# EAGLE library part L53C80JC2 (library F030NG)
SCSI / L53C80JC2
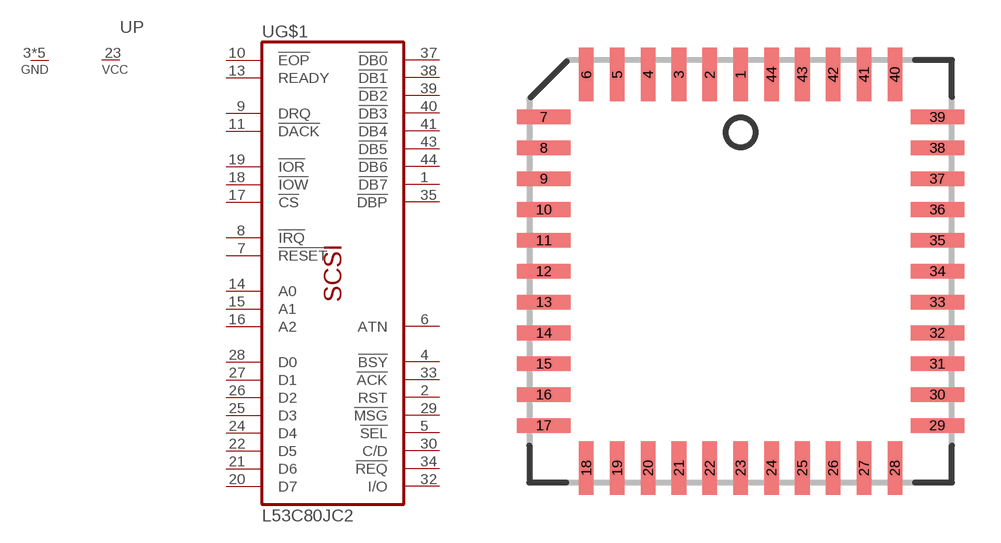
[diagram p28: symbol with the pads of PLCC44; footprint PLCC44]

Designator prefix U; gates G$1=L53C80JC2 P=1VCC_1GND

## L53C80JC2-PLCC44  [PLCC44]
1  G$1:!DB7
2  G$1:RST
3  P:GND  pwr
4  G$1:!BSY
5  G$1:!SEL
6  G$1:ATN
7  G$1:!RESET  in
8  G$1:!IRQ  out
9  G$1:DRQ  out
10  G$1:!EOP  in
11  G$1:!DACK  in
12  P:GND  pwr
13  G$1:READY  out
14  G$1:A0  in
15  G$1:A1  in
16  G$1:A2  in
17  G$1:!CS  in
18  G$1:!IOW  in
19  G$1:!IOR  in
20  G$1:D7
21  G$1:D6
22  G$1:D5
23  P:VCC  pwr
24  G$1:D4
25  G$1:D3
26  G$1:D2
27  G$1:D1
28  G$1:D0
29  G$1:!MSG
30  G$1:C/D
31  P:GND  pwr
32  G$1:I/O
33  G$1:!ACK
34  G$1:!REQ
35  G$1:!DBP
36  P:GND  pwr
37  G$1:!DB0
38  G$1:!DB1
39  G$1:!DB2
40  G$1:!DB3
41  G$1:!DB4
42  P:GND  pwr
43  G$1:!DB5
44  G$1:!DB6

## Footprint PLCC44 (pad centres in mm)
PLASTIC LEADED CHIP CARRIER square
smd 0.6 x 2.2: 1 0,8.1; 2 -1.27,8.1; 3 -2.54,8.1; 4 -3.81,8.1; 5 -5.08,8.1; 6 -6.35,8.1; 18 -6.35,-8.1; 19 -5.08,-8.1; 20 -3.81,-8.1; 21 -2.54,-8.1; 22 -1.27,-8.1; 23 0,-8.1; 24 1.27,-8.1; 25 2.54,-8.1; 26 3.81,-8.1; 27 5.08,-8.1; 28 6.35,-8.1; 40 6.35,8.1; 41 5.08,8.1; 42 3.81,8.1; 43 2.54,8.1; 44 1.27,8.1
smd 2.2 x 0.6: 7 -8.1,6.35; 8 -8.1,5.08; 9 -8.1,3.81; 10 -8.1,2.54; 11 -8.1,1.27; 12 -8.1,0; 13 -8.1,-1.27; 14 -8.1,-2.54; 15 -8.1,-3.81; 16 -8.1,-5.08; 17 -8.1,-6.35; 29 8.1,-6.35; 30 8.1,-5.08; 31 8.1,-3.81; 32 8.1,-2.54; 33 8.1,-1.27; 34 8.1,0; 35 8.1,1.27; 36 8.1,2.54; 37 8.1,3.81; 38 8.1,5.08; 39 8.1,6.35